# Altium integrated library Cypress Clocks & Buffers Clock Generation.IntLib: 249 symbols (part 3 of 12)
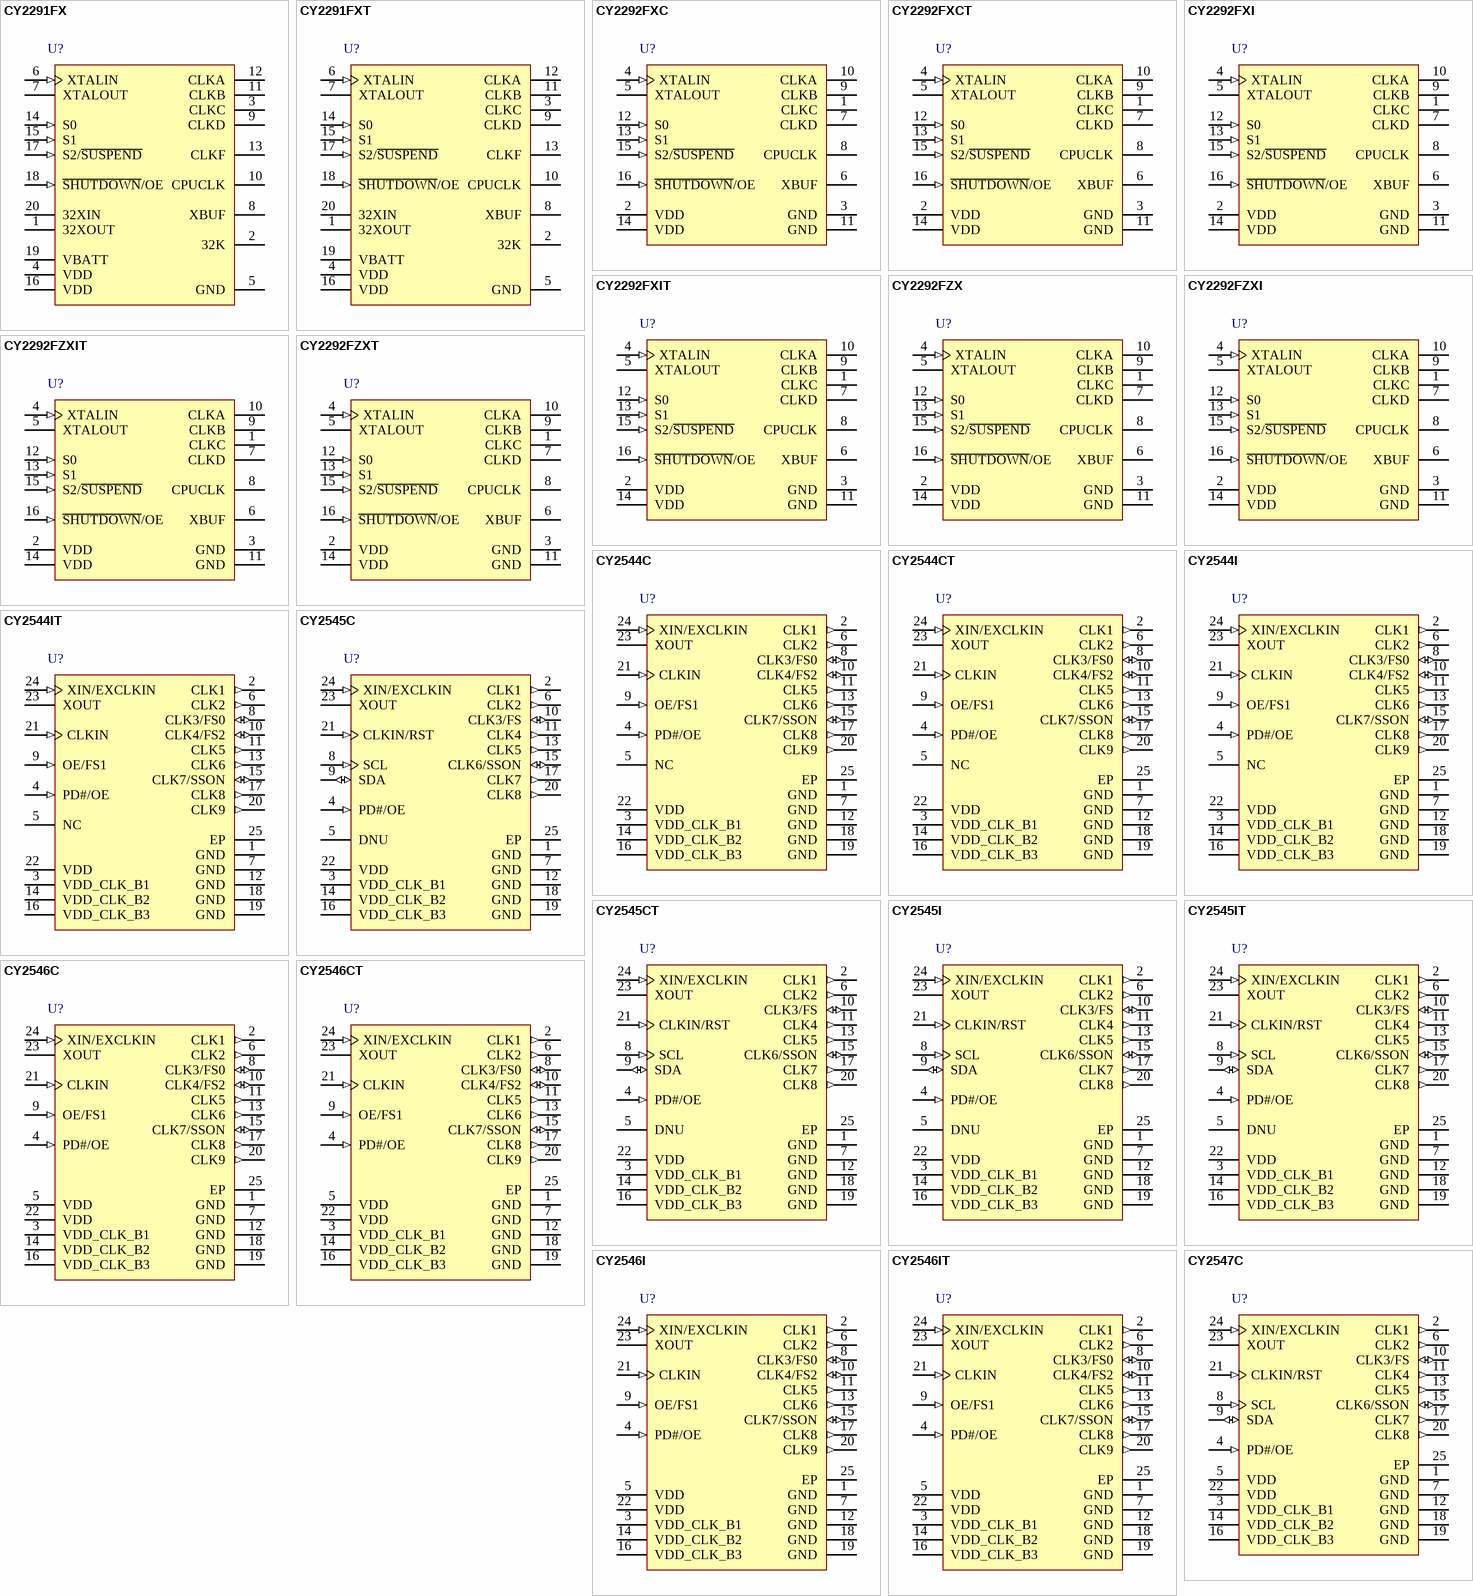
[diagram p10: symbols CY2291FX to CY2547C]

## CY2544I
designator U?
Quad PLL Programmable Clock Generator with Spread Spectrum, 2.5 / 3.0 / 3.3 V, 9 Outputs, 3 to 166 MHz, -40 to 85 degC, 24-Pin QFN (LY24), Tube; Manufacturer: Cypress; PartNumber: CY2544I; Input Frequency Max. (MHz): 166; Input Frequency Min. (MHz): 8; Max. Operating Voltage (V): 3.6; Min. Operating Voltage (V): 2.25; No. of Outputs: 9; Output Frequency Min. (MHz): 3; DatasheetVersion: Rev. *D; PackageVersion: Rev. *D; PackageReference: LY24; PackageDescription: 24-Pin Quad Flat No Lead, Body 4 x 4 mm, Pitch 0.5 mm; Max. Operating Temp. (degreesC): 85; Min. Operating Temp. (degreesC): -40; Output Frequency Max. (MHz): 166; Packing: Tube; RoHS: Pb-Free; Mounting Technology: Surface Mount; Code_JEDEC: MO-220; ComponentLink1Description: Manufacturer URL; ComponentLink1URL: http://www.cypress.com/; ComponentLink2Description: Datasheet; ComponentLink2URL: http://www.cypress.com/?docID=47416; ComponentLink3Description: Package Specification; ComponentLink3URL: http://www.cypress.com/?docID=47416
footprint CYP-LY24_N (QFN, 24-Leads, Body 4.1x4.1mm, Pitch 0.5mm, Thermal Pad 2.49x2.49mm, IPC Medium Density)
footprint CYP-LY24_L (QFN, 24-Leads, Body 4.1x4.1mm, Pitch 0.5mm, Thermal Pad 2.49x2.49mm, IPC High Density)
footprint CYP-LY24_M (QFN, 24-Leads, Body 4.1x4.1mm, Pitch 0.5mm, Thermal Pad 2.49x2.49mm, IPC Low Density)
pins: 1 GND (power) "Power supply ground", 2 CLK1 (out) "Programmable clock output. Output voltage depends on VDD_CLK_B1 voltage", 3 VDD_CLK_B1 (power) "Power supply for bank1, (CLK1, CLK2, CLK3) Outputs: 2.5 V/3.0 V/3.3 V", 4 PD#/OE (in) "Multifunction programmable pin. Output enable or power-down mode", 5 NC "No Connect", 6 CLK2 (out) "Programmable Clock Output. Output voltage depends on VDD_CLK_B1 voltage", 7 GND (power) "Power supply ground", 8 CLK3/FS0 (io) "Multifunction programmable pin. Programmable clock output clock or frequency select pin. Output voltage of CLK3 depends on VDD_CLK_B1 voltage", 9 OE/FS1 (in) "Multifunction programmable pin. Output enable or frequency select pin", 10 CLK4/FS2 (io) "Multifunction programmable pin. Programmable clock output or frequency select input pin. Output voltage of CLK4 depends on VDD_CLK_B2 voltage", 11 CLK5 (out) "Programmable clock output. Output voltage depends on VDD_CLK_B2 voltage", 12 GND (power) "Power supply ground", 13 CLK6 (out) "Programmable clock output. Output voltage depends on VDD_CLK_B2 voltage", 14 VDD_CLK_B2 (power) "Power supply for bank2, (CLK4, CLK5, CLK6) Outputs. 2.5 V/3.0 V/3.3 V", 15 CLK7/SSON (io) "Multifunction programmable pin. Programmable clock output or spread spectrum ON/OFF control input pin. Output voltage of CLK7 depends on Bank3 voltage", 16 VDD_CLK_B3 (power) "Power supply for bank3, (CLK7, CLK8, CLK9) Outputs. 2.5 V/3.0 V/3.3 V", 17 CLK8 (out) "Programmable output clock. Output voltage depends on Bank3 voltage", 18 GND (power) "Power supply ground", 19 GND (power) "Power supply ground", 20 CLK9 (out) "Programmable clock output. Output voltage depends on VDD_CLK_B3 voltage", 21 CLKIN (in) "2.5 V/3.0 V/3.3 V reference clock input. The signal level of CLKIN input must track VDD power supply on pin 22.", 22 VDD (power) "Power supply. 2.5 V/3.0 V/3.3 V", 23 XOUT "Crystal output for CY2544", 24 XIN/EXCLKIN (in) "Crystal input or 1.8 V external clock input for CY2544", 25 EP

## CY2544IT
designator U?
Quad PLL Programmable Clock Generator with Spread Spectrum, 2.5 / 3.0 / 3.3 V, 9 Outputs, 3 to 166 MHz, -40 to 85 degC, 24-Pin QFN (LY24), Tape and Reel; Manufacturer: Cypress; PartNumber: CY2544IT; Input Frequency Max. (MHz): 166; Input Frequency Min. (MHz): 8; Max. Operating Voltage (V): 3.6; Min. Operating Voltage (V): 2.25; No. of Outputs: 9; Output Frequency Min. (MHz): 3; DatasheetVersion: Rev. *D; PackageVersion: Rev. *D; PackageReference: LY24; PackageDescription: 24-Pin Quad Flat No Lead, Body 4 x 4 mm, Pitch 0.5 mm; Max. Operating Temp. (degreesC): 85; Min. Operating Temp. (degreesC): -40; Output Frequency Max. (MHz): 166; Packing: Tape and Reel; RoHS: Pb-Free; Mounting Technology: Surface Mount; Code_JEDEC: MO-220; ComponentLink1Description: Manufacturer URL; ComponentLink1URL: http://www.cypress.com/; ComponentLink2Description: Datasheet; ComponentLink2URL: http://www.cypress.com/?docID=47416; ComponentLink3Description: Package Specification; ComponentLink3URL: http://www.cypress.com/?docID=47416
footprint CYP-LY24_N (QFN, 24-Leads, Body 4.1x4.1mm, Pitch 0.5mm, Thermal Pad 2.49x2.49mm, IPC Medium Density)
footprint CYP-LY24_L (QFN, 24-Leads, Body 4.1x4.1mm, Pitch 0.5mm, Thermal Pad 2.49x2.49mm, IPC High Density)
footprint CYP-LY24_M (QFN, 24-Leads, Body 4.1x4.1mm, Pitch 0.5mm, Thermal Pad 2.49x2.49mm, IPC Low Density)
pins: 1 GND (power) "Power supply ground", 2 CLK1 (out) "Programmable clock output. Output voltage depends on VDD_CLK_B1 voltage", 3 VDD_CLK_B1 (power) "Power supply for bank1, (CLK1, CLK2, CLK3) Outputs: 2.5 V/3.0 V/3.3 V", 4 PD#/OE (in) "Multifunction programmable pin. Output enable or power-down mode", 5 NC "No Connect", 6 CLK2 (out) "Programmable Clock Output. Output voltage depends on VDD_CLK_B1 voltage", 7 GND (power) "Power supply ground", 8 CLK3/FS0 (io) "Multifunction programmable pin. Programmable clock output clock or frequency select pin. Output voltage of CLK3 depends on VDD_CLK_B1 voltage", 9 OE/FS1 (in) "Multifunction programmable pin. Output enable or frequency select pin", 10 CLK4/FS2 (io) "Multifunction programmable pin. Programmable clock output or frequency select input pin. Output voltage of CLK4 depends on VDD_CLK_B2 voltage", 11 CLK5 (out) "Programmable clock output. Output voltage depends on VDD_CLK_B2 voltage", 12 GND (power) "Power supply ground", 13 CLK6 (out) "Programmable clock output. Output voltage depends on VDD_CLK_B2 voltage", 14 VDD_CLK_B2 (power) "Power supply for bank2, (CLK4, CLK5, CLK6) Outputs. 2.5 V/3.0 V/3.3 V", 15 CLK7/SSON (io) "Multifunction programmable pin. Programmable clock output or spread spectrum ON/OFF control input pin. Output voltage of CLK7 depends on Bank3 voltage", 16 VDD_CLK_B3 (power) "Power supply for bank3, (CLK7, CLK8, CLK9) Outputs. 2.5 V/3.0 V/3.3 V", 17 CLK8 (out) "Programmable output clock. Output voltage depends on Bank3 voltage", 18 GND (power) "Power supply ground", 19 GND (power) "Power supply ground", 20 CLK9 (out) "Programmable clock output. Output voltage depends on VDD_CLK_B3 voltage", 21 CLKIN (in) "2.5 V/3.0 V/3.3 V reference clock input. The signal level of CLKIN input must track VDD power supply on pin 22.", 22 VDD (power) "Power supply. 2.5 V/3.0 V/3.3 V", 23 XOUT "Crystal output for CY2544", 24 XIN/EXCLKIN (in) "Crystal input or 1.8 V external clock input for CY2544", 25 EP

## CY2545C
designator U?
Quad PLL Programmable Spread Spectrum Clock Generator with Serial I2C Interface, 2.5 / 3.0 / 3.3 V, 8 Outputs, 3 to 166 MHz, 0 to 70 degC, 24-Pin QFN (LY24), Tube; Manufacturer: Cypress; PartNumber: CY2545C; Input Frequency Max. (MHz): 166; Input Frequency Min. (MHz): 8; Max. Operating Voltage (V): 3.6; Min. Operating Voltage (V): 2.25; Output Frequency Min. (MHz): 3; DatasheetVersion: Rev. *C; PackageVersion: Rev. *D; PackageReference: LY24; PackageDescription: 24-Pin Quad Flat No Lead, Body 4 x 4 mm, Pitch 0.5 mm; Max. Operating Temp. (degreesC): 70; Min. Operating Temp. (degreesC): 0; No. of Outputs: 8; Output Frequency Max. (MHz): 166; Packing: Tube; RoHS: Pb-Free; Mounting Technology: Surface Mount; Code_JEDEC: MO-220; ComponentLink1Description: Manufacturer URL; ComponentLink1URL: http://www.cypress.com/; ComponentLink2Description: Datasheet; ComponentLink2URL: http://www.cypress.com/?docID=30111; ComponentLink3Description: Package Specification; ComponentLink3URL: http://www.cypress.com/?docID=47416
footprint CYP-LY24_N (QFN, 24-Leads, Body 4.1x4.1mm, Pitch 0.5mm, Thermal Pad 2.49x2.49mm, IPC Medium Density)
footprint CYP-LY24_L (QFN, 24-Leads, Body 4.1x4.1mm, Pitch 0.5mm, Thermal Pad 2.49x2.49mm, IPC High Density)
footprint CYP-LY24_M (QFN, 24-Leads, Body 4.1x4.1mm, Pitch 0.5mm, Thermal Pad 2.49x2.49mm, IPC Low Density)
pins: 1 GND (power) "Power supply ground", 2 CLK1 (out) "Programmable clock output. Output voltage depends on VDD_CLK_B1 voltage", 3 VDD_CLK_B1 (power) "Power supply for bank1, (CLK1, CLK2, CLK3) Outputs: 2.5 V/3.0 V/3.3 V", 4 PD#/OE (in) "Multifunction programmable pin. Output enable or power-down mode", 5 DNU "Do not use this pin", 6 CLK2 (out) "Programmable Clock Output. Output voltage depends on VDD_CLK_B1 voltage", 7 GND (power) "Power supply ground", 8 SCL (in) "Serial data clock", 9 SDA (io) "Serial data input/output", 10 CLK3/FS (io) "Multifunction programmable pin. Programmable clock output or frequency select input pin. Output voltage of CLK3 depends on VDD_CLK_B2 voltage", 11 CLK4 (out) "Programmable clock output. Output voltage depends on VDD_CLK_B2 voltage", 12 GND (power) "Power supply ground", 13 CLK5 (out) "Programmable clock output. Output voltage depends on VDD_CLK_B2 voltage", 14 VDD_CLK_B2 (power) "Power supply for bank2, (CLK3, CLK4, CLK5) Outputs. 2.5 V/3.0 V/3.3 V", 15 CLK6/SSON (io) "Multifunction programmable pin. Programmable clock output or spread spectrum ON/OFF control input pin. Output voltage of CLK6 depends on Bank3 voltage", 16 VDD_CLK_B3 (power) "Power supply for bank3, (CLK6, CLK7, CLK8) Outputs. 2.5 V/3.0 V/3.3 V", 17 CLK7 (out) "Programmable output clock. Output voltage depends on Bank3 voltage", 18 GND (power) "Power supply ground", 19 GND (power) "Power supply ground", 20 CLK8 (out) "Programmable clock output. Output voltage depends on VDD_CLK_B3 voltage", 21 CLKIN/RST (in) "Multifunction programmable pin. High true reset input or 2.5 V/3.0 V/3.3 V external reference clock input. The signal level of CLKIN input must track VDD power supply on pin 22.", 22 VDD (power) "Power supply. 2.5 V/3.0 V/3.3 V", 23 XOUT "Crystal output", 24 XIN/EXCLKIN (in) "Crystal input or 1.8 V external clock input", 25 EP

## CY2545CT
designator U?
Quad PLL Programmable Spread Spectrum Clock Generator with Serial I2C Interface, 2.5 / 3.0 / 3.3 V, 8 Outputs, 3 to 166 MHz, 0 to 70 degC, 24-Pin QFN (LY24), Tape and Reel; Manufacturer: Cypress; PartNumber: CY2545CT; Input Frequency Max. (MHz): 166; Input Frequency Min. (MHz): 8; Max. Operating Voltage (V): 3.6; Min. Operating Voltage (V): 2.25; Output Frequency Min. (MHz): 3; DatasheetVersion: Rev. *C; PackageVersion: Rev. *D; PackageReference: LY24; PackageDescription: 24-Pin Quad Flat No Lead, Body 4 x 4 mm, Pitch 0.5 mm; Max. Operating Temp. (degreesC): 70; Min. Operating Temp. (degreesC): 0; No. of Outputs: 8; Output Frequency Max. (MHz): 166; Packing: Tape and Reel; RoHS: Pb-Free; Mounting Technology: Surface Mount; Code_JEDEC: MO-220; ComponentLink1Description: Manufacturer URL; ComponentLink1URL: http://www.cypress.com/; ComponentLink2Description: Datasheet; ComponentLink2URL: http://www.cypress.com/?docID=30111; ComponentLink3Description: Package Specification; ComponentLink3URL: http://www.cypress.com/?docID=47416
footprint CYP-LY24_N (QFN, 24-Leads, Body 4.1x4.1mm, Pitch 0.5mm, Thermal Pad 2.49x2.49mm, IPC Medium Density)
footprint CYP-LY24_L (QFN, 24-Leads, Body 4.1x4.1mm, Pitch 0.5mm, Thermal Pad 2.49x2.49mm, IPC High Density)
footprint CYP-LY24_M (QFN, 24-Leads, Body 4.1x4.1mm, Pitch 0.5mm, Thermal Pad 2.49x2.49mm, IPC Low Density)
pins: 1 GND (power) "Power supply ground", 2 CLK1 (out) "Programmable clock output. Output voltage depends on VDD_CLK_B1 voltage", 3 VDD_CLK_B1 (power) "Power supply for bank1, (CLK1, CLK2, CLK3) Outputs: 2.5 V/3.0 V/3.3 V", 4 PD#/OE (in) "Multifunction programmable pin. Output enable or power-down mode", 5 DNU "Do not use this pin", 6 CLK2 (out) "Programmable Clock Output. Output voltage depends on VDD_CLK_B1 voltage", 7 GND (power) "Power supply ground", 8 SCL (in) "Serial data clock", 9 SDA (io) "Serial data input/output", 10 CLK3/FS (io) "Multifunction programmable pin. Programmable clock output or frequency select input pin. Output voltage of CLK3 depends on VDD_CLK_B2 voltage", 11 CLK4 (out) "Programmable clock output. Output voltage depends on VDD_CLK_B2 voltage", 12 GND (power) "Power supply ground", 13 CLK5 (out) "Programmable clock output. Output voltage depends on VDD_CLK_B2 voltage", 14 VDD_CLK_B2 (power) "Power supply for bank2, (CLK3, CLK4, CLK5) Outputs. 2.5 V/3.0 V/3.3 V", 15 CLK6/SSON (io) "Multifunction programmable pin. Programmable clock output or spread spectrum ON/OFF control input pin. Output voltage of CLK6 depends on Bank3 voltage", 16 VDD_CLK_B3 (power) "Power supply for bank3, (CLK6, CLK7, CLK8) Outputs. 2.5 V/3.0 V/3.3 V", 17 CLK7 (out) "Programmable output clock. Output voltage depends on Bank3 voltage", 18 GND (power) "Power supply ground", 19 GND (power) "Power supply ground", 20 CLK8 (out) "Programmable clock output. Output voltage depends on VDD_CLK_B3 voltage", 21 CLKIN/RST (in) "Multifunction programmable pin. High true reset input or 2.5 V/3.0 V/3.3 V external reference clock input. The signal level of CLKIN input must track VDD power supply on pin 22.", 22 VDD (power) "Power supply. 2.5 V/3.0 V/3.3 V", 23 XOUT "Crystal output", 24 XIN/EXCLKIN (in) "Crystal input or 1.8 V external clock input", 25 EP

## CY2545I
designator U?
Quad PLL Programmable Spread Spectrum Clock Generator with Serial I2C Interface, 2.5 / 3.0 / 3.3 V, 8 Outputs, 3 to 166 MHz, -40 to 85 degC, 24-Pin QFN (LY24), Tube; Manufacturer: Cypress; PartNumber: CY2545I; Input Frequency Max. (MHz): 166; Input Frequency Min. (MHz): 8; Max. Operating Voltage (V): 3.6; Min. Operating Voltage (V): 2.25; Output Frequency Min. (MHz): 3; DatasheetVersion: Rev. *C; PackageVersion: Rev. *D; PackageReference: LY24; PackageDescription: 24-Pin Quad Flat No Lead, Body 4 x 4 mm, Pitch 0.5 mm; Max. Operating Temp. (degreesC): 85; Min. Operating Temp. (degreesC): -40; No. of Outputs: 8; Output Frequency Max. (MHz): 166; Packing: Tube; RoHS: Pb-Free; Mounting Technology: Surface Mount; Code_JEDEC: MO-220; ComponentLink1Description: Manufacturer URL; ComponentLink1URL: http://www.cypress.com/; ComponentLink2Description: Datasheet; ComponentLink2URL: http://www.cypress.com/?docID=30111; ComponentLink3Description: Package Specification; ComponentLink3URL: http://www.cypress.com/?docID=47416
footprint CYP-LY24_N (QFN, 24-Leads, Body 4.1x4.1mm, Pitch 0.5mm, Thermal Pad 2.49x2.49mm, IPC Medium Density)
footprint CYP-LY24_L (QFN, 24-Leads, Body 4.1x4.1mm, Pitch 0.5mm, Thermal Pad 2.49x2.49mm, IPC High Density)
footprint CYP-LY24_M (QFN, 24-Leads, Body 4.1x4.1mm, Pitch 0.5mm, Thermal Pad 2.49x2.49mm, IPC Low Density)
pins: 1 GND (power) "Power supply ground", 2 CLK1 (out) "Programmable clock output. Output voltage depends on VDD_CLK_B1 voltage", 3 VDD_CLK_B1 (power) "Power supply for bank1, (CLK1, CLK2, CLK3) Outputs: 2.5 V/3.0 V/3.3 V", 4 PD#/OE (in) "Multifunction programmable pin. Output enable or power-down mode", 5 DNU "Do not use this pin", 6 CLK2 (out) "Programmable Clock Output. Output voltage depends on VDD_CLK_B1 voltage", 7 GND (power) "Power supply ground", 8 SCL (in) "Serial data clock", 9 SDA (io) "Serial data input/output", 10 CLK3/FS (io) "Multifunction programmable pin. Programmable clock output or frequency select input pin. Output voltage of CLK3 depends on VDD_CLK_B2 voltage", 11 CLK4 (out) "Programmable clock output. Output voltage depends on VDD_CLK_B2 voltage", 12 GND (power) "Power supply ground", 13 CLK5 (out) "Programmable clock output. Output voltage depends on VDD_CLK_B2 voltage", 14 VDD_CLK_B2 (power) "Power supply for bank2, (CLK3, CLK4, CLK5) Outputs. 2.5 V/3.0 V/3.3 V", 15 CLK6/SSON (io) "Multifunction programmable pin. Programmable clock output or spread spectrum ON/OFF control input pin. Output voltage of CLK6 depends on Bank3 voltage", 16 VDD_CLK_B3 (power) "Power supply for bank3, (CLK6, CLK7, CLK8) Outputs. 2.5 V/3.0 V/3.3 V", 17 CLK7 (out) "Programmable output clock. Output voltage depends on Bank3 voltage", 18 GND (power) "Power supply ground", 19 GND (power) "Power supply ground", 20 CLK8 (out) "Programmable clock output. Output voltage depends on VDD_CLK_B3 voltage", 21 CLKIN/RST (in) "Multifunction programmable pin. High true reset input or 2.5 V/3.0 V/3.3 V external reference clock input. The signal level of CLKIN input must track VDD power supply on pin 22.", 22 VDD (power) "Power supply. 2.5 V/3.0 V/3.3 V", 23 XOUT "Crystal output", 24 XIN/EXCLKIN (in) "Crystal input or 1.8 V external clock input", 25 EP

## CY2545IT
designator U?
Quad PLL Programmable Spread Spectrum Clock Generator with Serial I2C Interface, 2.5 / 3.0 / 3.3 V, 8 Outputs, 3 to 166 MHz, -40 to 85 degC, 24-Pin QFN (LY24), Tape and Reel; Manufacturer: Cypress; PartNumber: CY2545IT; Input Frequency Max. (MHz): 166; Input Frequency Min. (MHz): 8; Max. Operating Voltage (V): 3.6; Min. Operating Voltage (V): 2.25; Output Frequency Min. (MHz): 3; DatasheetVersion: Rev. *C; PackageVersion: Rev. *D; PackageReference: LY24; PackageDescription: 24-Pin Quad Flat No Lead, Body 4 x 4 mm, Pitch 0.5 mm; Max. Operating Temp. (degreesC): 85; Min. Operating Temp. (degreesC): -40; No. of Outputs: 8; Output Frequency Max. (MHz): 166; Packing: Tape and Reel; RoHS: Pb-Free; Mounting Technology: Surface Mount; Code_JEDEC: MO-220; ComponentLink1Description: Manufacturer URL; ComponentLink1URL: http://www.cypress.com/; ComponentLink2Description: Datasheet; ComponentLink2URL: http://www.cypress.com/?docID=30111; ComponentLink3Description: Package Specification; ComponentLink3URL: http://www.cypress.com/?docID=47416
footprint CYP-LY24_N (QFN, 24-Leads, Body 4.1x4.1mm, Pitch 0.5mm, Thermal Pad 2.49x2.49mm, IPC Medium Density)
footprint CYP-LY24_L (QFN, 24-Leads, Body 4.1x4.1mm, Pitch 0.5mm, Thermal Pad 2.49x2.49mm, IPC High Density)
footprint CYP-LY24_M (QFN, 24-Leads, Body 4.1x4.1mm, Pitch 0.5mm, Thermal Pad 2.49x2.49mm, IPC Low Density)
pins: 1 GND (power) "Power supply ground", 2 CLK1 (out) "Programmable clock output. Output voltage depends on VDD_CLK_B1 voltage", 3 VDD_CLK_B1 (power) "Power supply for bank1, (CLK1, CLK2, CLK3) Outputs: 2.5 V/3.0 V/3.3 V", 4 PD#/OE (in) "Multifunction programmable pin. Output enable or power-down mode", 5 DNU "Do not use this pin", 6 CLK2 (out) "Programmable Clock Output. Output voltage depends on VDD_CLK_B1 voltage", 7 GND (power) "Power supply ground", 8 SCL (in) "Serial data clock", 9 SDA (io) "Serial data input/output", 10 CLK3/FS (io) "Multifunction programmable pin. Programmable clock output or frequency select input pin. Output voltage of CLK3 depends on VDD_CLK_B2 voltage", 11 CLK4 (out) "Programmable clock output. Output voltage depends on VDD_CLK_B2 voltage", 12 GND (power) "Power supply ground", 13 CLK5 (out) "Programmable clock output. Output voltage depends on VDD_CLK_B2 voltage", 14 VDD_CLK_B2 (power) "Power supply for bank2, (CLK3, CLK4, CLK5) Outputs. 2.5 V/3.0 V/3.3 V", 15 CLK6/SSON (io) "Multifunction programmable pin. Programmable clock output or spread spectrum ON/OFF control input pin. Output voltage of CLK6 depends on Bank3 voltage", 16 VDD_CLK_B3 (power) "Power supply for bank3, (CLK6, CLK7, CLK8) Outputs. 2.5 V/3.0 V/3.3 V", 17 CLK7 (out) "Programmable output clock. Output voltage depends on Bank3 voltage", 18 GND (power) "Power supply ground", 19 GND (power) "Power supply ground", 20 CLK8 (out) "Programmable clock output. Output voltage depends on VDD_CLK_B3 voltage", 21 CLKIN/RST (in) "Multifunction programmable pin. High true reset input or 2.5 V/3.0 V/3.3 V external reference clock input. The signal level of CLKIN input must track VDD power supply on pin 22.", 22 VDD (power) "Power supply. 2.5 V/3.0 V/3.3 V", 23 XOUT "Crystal output", 24 XIN/EXCLKIN (in) "Crystal input or 1.8 V external clock input", 25 EP

## CY2546C
designator U?
Quad PLL Programmable Clock Generator with Spread Spectrum, 1.8 V, 9 Outputs, 3 to 166 MHz, 0 to 70 degC, 24-Pin QFN (LY24), Tube; Manufacturer: Cypress; PartNumber: CY2546C; Input Frequency Max. (MHz): 166; Input Frequency Min. (MHz): 8; Max. Operating Voltage (V): 1.95; Min. Operating Voltage (V): 1.65; No. of Outputs: 9; Output Frequency Min. (MHz): 3; DatasheetVersion: Rev. *D; PackageVersion: Rev. *D; PackageReference: LY24; PackageDescription: 24-Pin Quad Flat No Lead, Body 4 x 4 mm, Pitch 0.5 mm; Max. Operating Temp. (degreesC): 70; Min. Operating Temp. (degreesC): 0; Output Frequency Max. (MHz): 166; Packing: Tube; RoHS: Pb-Free; Mounting Technology: Surface Mount; Code_JEDEC: MO-220; ComponentLink1Description: Manufacturer URL; ComponentLink1URL: http://www.cypress.com/; ComponentLink2Description: Datasheet; ComponentLink2URL: http://www.cypress.com/?docID=47416; ComponentLink3Description: Package Specification; ComponentLink3URL: http://www.cypress.com/?docID=47416
footprint CYP-LY24_N (QFN, 24-Leads, Body 4.1x4.1mm, Pitch 0.5mm, Thermal Pad 2.49x2.49mm, IPC Medium Density)
footprint CYP-LY24_L (QFN, 24-Leads, Body 4.1x4.1mm, Pitch 0.5mm, Thermal Pad 2.49x2.49mm, IPC High Density)
footprint CYP-LY24_M (QFN, 24-Leads, Body 4.1x4.1mm, Pitch 0.5mm, Thermal Pad 2.49x2.49mm, IPC Low Density)
pins: 1 GND (power) "Power supply ground", 2 CLK1 (out) "Programmable clock output. Output voltage depends on VDD_CLK_B1 voltage", 3 VDD_CLK_B1 (power) "Power supply for bank1, (CLK1, CLK2, CLK3) Outputs: 1.8 V", 4 PD#/OE (in) "Multifunction programmable pin. Output enable or power-down mode", 5 VDD (power) "Power supply. 1.8 V", 6 CLK2 (out) "Programmable Clock Output. Output voltage depends on VDD_CLK_B1 voltage", 7 GND (power) "Power supply ground", 8 CLK3/FS0 (io) "Multifunction programmable pin. Programmable clock output clock or frequency select pin. Output voltage of CLK3 depends on VDD_CLK_B1 voltage", 9 OE/FS1 (in) "Multifunction programmable pin. Output enable or frequency select pin", 10 CLK4/FS2 (io) "Multifunction programmable pin. Programmable clock output or frequency select input pin. Output voltage of CLK4 depends on VDD_CLK_B2 voltage", 11 CLK5 (out) "Programmable clock output. Output voltage depends on VDD_CLK_B2 voltage", 12 GND (power) "Power supply ground", 13 CLK6 (out) "Programmable clock output. Output voltage depends on VDD_CLK_B2 voltage", 14 VDD_CLK_B2 (power) "Power supply for bank2, (CLK4, CLK5, CLK6) Outputs. 1.8 V", 15 CLK7/SSON (io) "Multifunction programmable pin. Programmable clock output or spread spectrum ON/OFF control input pin. Output voltage of CLK7 depends on Bank3 voltage", 16 VDD_CLK_B3 (power) "Power supply for bank3, (CLK7, CLK8, CLK9) Outputs. 1.8 V", 17 CLK8 (out) "Programmable output clock. Output voltage depends on Bank3 voltage", 18 GND (power) "Power supply ground", 19 GND (power) "Power supply ground", 20 CLK9 (out) "Programmable clock output. Output voltage depends on VDD_CLK_B3 voltage", 21 CLKIN (in) "External 1.8 V low voltage reference clock input", 22 VDD (power) "Power supply. 1.8 V", 23 XOUT "Crystal output", 24 XIN/EXCLKIN (in) "Crystal input or 1.8 V external clock input", 25 EP

## CY2546CT
designator U?
Quad PLL Programmable Clock Generator with Spread Spectrum, 1.8 V, 9 Outputs, 3 to 166 MHz, 0 to 70 degC, 24-Pin QFN (LY24), Tape and Reel; Manufacturer: Cypress; PartNumber: CY2546CT; Input Frequency Max. (MHz): 166; Input Frequency Min. (MHz): 8; Max. Operating Voltage (V): 1.95; Min. Operating Voltage (V): 1.65; No. of Outputs: 9; Output Frequency Min. (MHz): 3; DatasheetVersion: Rev. *D; PackageVersion: Rev. *D; PackageReference: LY24; PackageDescription: 24-Pin Quad Flat No Lead, Body 4 x 4 mm, Pitch 0.5 mm; Max. Operating Temp. (degreesC): 70; Min. Operating Temp. (degreesC): 0; Output Frequency Max. (MHz): 166; Packing: Tape and Reel; RoHS: Pb-Free; Mounting Technology: Surface Mount; Code_JEDEC: MO-220; ComponentLink1Description: Manufacturer URL; ComponentLink1URL: http://www.cypress.com/; ComponentLink2Description: Datasheet; ComponentLink2URL: http://www.cypress.com/?docID=47416; ComponentLink3Description: Package Specification; ComponentLink3URL: http://www.cypress.com/?docID=47416
footprint CYP-LY24_N (QFN, 24-Leads, Body 4.1x4.1mm, Pitch 0.5mm, Thermal Pad 2.49x2.49mm, IPC Medium Density)
footprint CYP-LY24_L (QFN, 24-Leads, Body 4.1x4.1mm, Pitch 0.5mm, Thermal Pad 2.49x2.49mm, IPC High Density)
footprint CYP-LY24_M (QFN, 24-Leads, Body 4.1x4.1mm, Pitch 0.5mm, Thermal Pad 2.49x2.49mm, IPC Low Density)
pins: 1 GND (power) "Power supply ground", 2 CLK1 (out) "Programmable clock output. Output voltage depends on VDD_CLK_B1 voltage", 3 VDD_CLK_B1 (power) "Power supply for bank1, (CLK1, CLK2, CLK3) Outputs: 1.8 V", 4 PD#/OE (in) "Multifunction programmable pin. Output enable or power-down mode", 5 VDD (power) "Power supply. 1.8 V", 6 CLK2 (out) "Programmable Clock Output. Output voltage depends on VDD_CLK_B1 voltage", 7 GND (power) "Power supply ground", 8 CLK3/FS0 (io) "Multifunction programmable pin. Programmable clock output clock or frequency select pin. Output voltage of CLK3 depends on VDD_CLK_B1 voltage", 9 OE/FS1 (in) "Multifunction programmable pin. Output enable or frequency select pin", 10 CLK4/FS2 (io) "Multifunction programmable pin. Programmable clock output or frequency select input pin. Output voltage of CLK4 depends on VDD_CLK_B2 voltage", 11 CLK5 (out) "Programmable clock output. Output voltage depends on VDD_CLK_B2 voltage", 12 GND (power) "Power supply ground", 13 CLK6 (out) "Programmable clock output. Output voltage depends on VDD_CLK_B2 voltage", 14 VDD_CLK_B2 (power) "Power supply for bank2, (CLK4, CLK5, CLK6) Outputs. 1.8 V", 15 CLK7/SSON (io) "Multifunction programmable pin. Programmable clock output or spread spectrum ON/OFF control input pin. Output voltage of CLK7 depends on Bank3 voltage", 16 VDD_CLK_B3 (power) "Power supply for bank3, (CLK7, CLK8, CLK9) Outputs. 1.8 V", 17 CLK8 (out) "Programmable output clock. Output voltage depends on Bank3 voltage", 18 GND (power) "Power supply ground", 19 GND (power) "Power supply ground", 20 CLK9 (out) "Programmable clock output. Output voltage depends on VDD_CLK_B3 voltage", 21 CLKIN (in) "External 1.8 V low voltage reference clock input", 22 VDD (power) "Power supply. 1.8 V", 23 XOUT "Crystal output", 24 XIN/EXCLKIN (in) "Crystal input or 1.8 V external clock input", 25 EP

## CY2546I
designator U?
Quad PLL Programmable Clock Generator with Spread Spectrum, 1.8 V, 9 Outputs, 3 to 166 MHz, -40 to 85 degC, 24-Pin QFN (LY24), Tube; Manufacturer: Cypress; PartNumber: CY2546I; Input Frequency Max. (MHz): 166; Input Frequency Min. (MHz): 8; Max. Operating Voltage (V): 1.95; Min. Operating Voltage (V): 1.65; No. of Outputs: 9; Output Frequency Min. (MHz): 3; DatasheetVersion: Rev. *D; PackageVersion: Rev. *D; PackageReference: LY24; PackageDescription: 24-Pin Quad Flat No Lead, Body 4 x 4 mm, Pitch 0.5 mm; Max. Operating Temp. (degreesC): 85; Min. Operating Temp. (degreesC): -40; Output Frequency Max. (MHz): 166; Packing: Tube; RoHS: Pb-Free; Mounting Technology: Surface Mount; Code_JEDEC: MO-220; ComponentLink1Description: Manufacturer URL; ComponentLink1URL: http://www.cypress.com/; ComponentLink2Description: Datasheet; ComponentLink2URL: http://www.cypress.com/?docID=47416; ComponentLink3Description: Package Specification; ComponentLink3URL: http://www.cypress.com/?docID=47416
footprint CYP-LY24_N (QFN, 24-Leads, Body 4.1x4.1mm, Pitch 0.5mm, Thermal Pad 2.49x2.49mm, IPC Medium Density)
footprint CYP-LY24_L (QFN, 24-Leads, Body 4.1x4.1mm, Pitch 0.5mm, Thermal Pad 2.49x2.49mm, IPC High Density)
footprint CYP-LY24_M (QFN, 24-Leads, Body 4.1x4.1mm, Pitch 0.5mm, Thermal Pad 2.49x2.49mm, IPC Low Density)
pins: 1 GND (power) "Power supply ground", 2 CLK1 (out) "Programmable clock output. Output voltage depends on VDD_CLK_B1 voltage", 3 VDD_CLK_B1 (power) "Power supply for bank1, (CLK1, CLK2, CLK3) Outputs: 1.8 V", 4 PD#/OE (in) "Multifunction programmable pin. Output enable or power-down mode", 5 VDD (power) "Power supply. 1.8 V", 6 CLK2 (out) "Programmable Clock Output. Output voltage depends on VDD_CLK_B1 voltage", 7 GND (power) "Power supply ground", 8 CLK3/FS0 (io) "Multifunction programmable pin. Programmable clock output clock or frequency select pin. Output voltage of CLK3 depends on VDD_CLK_B1 voltage", 9 OE/FS1 (in) "Multifunction programmable pin. Output enable or frequency select pin", 10 CLK4/FS2 (io) "Multifunction programmable pin. Programmable clock output or frequency select input pin. Output voltage of CLK4 depends on VDD_CLK_B2 voltage", 11 CLK5 (out) "Programmable clock output. Output voltage depends on VDD_CLK_B2 voltage", 12 GND (power) "Power supply ground", 13 CLK6 (out) "Programmable clock output. Output voltage depends on VDD_CLK_B2 voltage", 14 VDD_CLK_B2 (power) "Power supply for bank2, (CLK4, CLK5, CLK6) Outputs. 1.8 V", 15 CLK7/SSON (io) "Multifunction programmable pin. Programmable clock output or spread spectrum ON/OFF control input pin. Output voltage of CLK7 depends on Bank3 voltage", 16 VDD_CLK_B3 (power) "Power supply for bank3, (CLK7, CLK8, CLK9) Outputs. 1.8 V", 17 CLK8 (out) "Programmable output clock. Output voltage depends on Bank3 voltage", 18 GND (power) "Power supply ground", 19 GND (power) "Power supply ground", 20 CLK9 (out) "Programmable clock output. Output voltage depends on VDD_CLK_B3 voltage", 21 CLKIN (in) "External 1.8 V low voltage reference clock input", 22 VDD (power) "Power supply. 1.8 V", 23 XOUT "Crystal output", 24 XIN/EXCLKIN (in) "Crystal input or 1.8 V external clock input", 25 EP

## CY2546IT
designator U?
Quad PLL Programmable Clock Generator with Spread Spectrum, 1.8 V, 9 Outputs, 3 to 166 MHz, -40 to 85 degC, 24-Pin QFN (LY24), Tape and Reel; Manufacturer: Cypress; PartNumber: CY2546IT; Input Frequency Max. (MHz): 166; Input Frequency Min. (MHz): 8; Max. Operating Voltage (V): 1.95; Min. Operating Voltage (V): 1.65; No. of Outputs: 9; Output Frequency Min. (MHz): 3; DatasheetVersion: Rev. *D; PackageVersion: Rev. *D; PackageReference: LY24; PackageDescription: 24-Pin Quad Flat No Lead, Body 4 x 4 mm, Pitch 0.5 mm; Max. Operating Temp. (degreesC): 85; Min. Operating Temp. (degreesC): -40; Output Frequency Max. (MHz): 166; Packing: Tape and Reel; RoHS: Pb-Free; Mounting Technology: Surface Mount; Code_JEDEC: MO-220; ComponentLink1Description: Manufacturer URL; ComponentLink1URL: http://www.cypress.com/; ComponentLink2Description: Datasheet; ComponentLink2URL: http://www.cypress.com/?docID=47416; ComponentLink3Description: Package Specification; ComponentLink3URL: http://www.cypress.com/?docID=47416
footprint CYP-LY24_N (QFN, 24-Leads, Body 4.1x4.1mm, Pitch 0.5mm, Thermal Pad 2.49x2.49mm, IPC Medium Density)
footprint CYP-LY24_L (QFN, 24-Leads, Body 4.1x4.1mm, Pitch 0.5mm, Thermal Pad 2.49x2.49mm, IPC High Density)
footprint CYP-LY24_M (QFN, 24-Leads, Body 4.1x4.1mm, Pitch 0.5mm, Thermal Pad 2.49x2.49mm, IPC Low Density)
pins: 1 GND (power) "Power supply ground", 2 CLK1 (out) "Programmable clock output. Output voltage depends on VDD_CLK_B1 voltage", 3 VDD_CLK_B1 (power) "Power supply for bank1, (CLK1, CLK2, CLK3) Outputs: 1.8 V", 4 PD#/OE (in) "Multifunction programmable pin. Output enable or power-down mode", 5 VDD (power) "Power supply. 1.8 V", 6 CLK2 (out) "Programmable Clock Output. Output voltage depends on VDD_CLK_B1 voltage", 7 GND (power) "Power supply ground", 8 CLK3/FS0 (io) "Multifunction programmable pin. Programmable clock output clock or frequency select pin. Output voltage of CLK3 depends on VDD_CLK_B1 voltage", 9 OE/FS1 (in) "Multifunction programmable pin. Output enable or frequency select pin", 10 CLK4/FS2 (io) "Multifunction programmable pin. Programmable clock output or frequency select input pin. Output voltage of CLK4 depends on VDD_CLK_B2 voltage", 11 CLK5 (out) "Programmable clock output. Output voltage depends on VDD_CLK_B2 voltage", 12 GND (power) "Power supply ground", 13 CLK6 (out) "Programmable clock output. Output voltage depends on VDD_CLK_B2 voltage", 14 VDD_CLK_B2 (power) "Power supply for bank2, (CLK4, CLK5, CLK6) Outputs. 1.8 V", 15 CLK7/SSON (io) "Multifunction programmable pin. Programmable clock output or spread spectrum ON/OFF control input pin. Output voltage of CLK7 depends on Bank3 voltage", 16 VDD_CLK_B3 (power) "Power supply for bank3, (CLK7, CLK8, CLK9) Outputs. 1.8 V", 17 CLK8 (out) "Programmable output clock. Output voltage depends on Bank3 voltage", 18 GND (power) "Power supply ground", 19 GND (power) "Power supply ground", 20 CLK9 (out) "Programmable clock output. Output voltage depends on VDD_CLK_B3 voltage", 21 CLKIN (in) "External 1.8 V low voltage reference clock input", 22 VDD (power) "Power supply. 1.8 V", 23 XOUT "Crystal output", 24 XIN/EXCLKIN (in) "Crystal input or 1.8 V external clock input", 25 EP

## CY2547C
designator U?
Quad PLL Programmable Spread Spectrum Clock Generator with Serial I2C Interface, 1.8 V, 8 Outputs, 3 to 166 MHz, 0 to 70 degC, 24-Pin QFN (LY24), Tube; Manufacturer: Cypress; PartNumber: CY2547C; Input Frequency Max. (MHz): 166; Input Frequency Min. (MHz): 8; Max. Operating Voltage (V): 1.95; Min. Operating Voltage (V): 1.65; Output Frequency Min. (MHz): 3; DatasheetVersion: Rev. *C; PackageVersion: Rev. *D; PackageReference: LY24; PackageDescription: 24-Pin Quad Flat No Lead, Body 4 x 4 mm, Pitch 0.5 mm; Max. Operating Temp. (degreesC): 70; Min. Operating Temp. (degreesC): 0; No. of Outputs: 8; Output Frequency Max. (MHz): 166; Packing: Tube; RoHS: Pb-Free; Mounting Technology: Surface Mount; Code_JEDEC: MO-220; ComponentLink1Description: Manufacturer URL; ComponentLink1URL: http://www.cypress.com/; ComponentLink2Description: Datasheet; ComponentLink2URL: http://www.cypress.com/?docID=30111; ComponentLink3Description: Package Specification; ComponentLink3URL: http://www.cypress.com/?docID=47416
footprint CYP-LY24_N (QFN, 24-Leads, Body 4.1x4.1mm, Pitch 0.5mm, Thermal Pad 2.49x2.49mm, IPC Medium Density)
footprint CYP-LY24_L (QFN, 24-Leads, Body 4.1x4.1mm, Pitch 0.5mm, Thermal Pad 2.49x2.49mm, IPC High Density)
footprint CYP-LY24_M (QFN, 24-Leads, Body 4.1x4.1mm, Pitch 0.5mm, Thermal Pad 2.49x2.49mm, IPC Low Density)
pins: 1 GND (power) "Power supply ground", 2 CLK1 (out) "Programmable clock output. Output voltage depends on VDD_CLK_B1 voltage", 3 VDD_CLK_B1 (power) "Power supply for bank1, (CLK1, CLK2, CLK3) Outputs: 1.8 V", 4 PD#/OE (in) "Multifunction programmable pin. Output enable or power-down mode", 5 VDD (power) "Power supply for core and inputs: 1.8 V", 6 CLK2 (out) "Programmable Clock Output. Output voltage depends on VDD_CLK_B1 voltage", 7 GND (power) "Power supply ground", 8 SCL (in) "Serial data clock", 9 SDA (io) "Serial data input/output", 10 CLK3/FS (io) "Multifunction programmable pin. Programmable clock output or frequency select input pin. Output voltage of CLK3 depends on VDD_CLK_B2 voltage", 11 CLK4 (out) "Programmable clock output. Output voltage depends on VDD_CLK_B2 voltage", 12 GND (power) "Power supply ground", 13 CLK5 (out) "Programmable clock output. Output voltage depends on VDD_CLK_B2 voltage", 14 VDD_CLK_B2 (power) "Power supply for bank2, (CLK3, CLK4, CLK5) Outputs. 1.8 V", 15 CLK6/SSON (io) "Multifunction programmable pin. Programmable clock output or spread spectrum ON/OFF control input pin. Output voltage of CLK6 depends on Bank3 voltage", 16 VDD_CLK_B3 (power) "Power supply for bank3, (CLK6, CLK7, CLK8) Outputs. 1.8 V", 17 CLK7 (out) "Programmable output clock. Output voltage depends on Bank3 voltage", 18 GND (power) "Power supply ground", 19 GND (power) "Power supply ground", 20 CLK8 (out) "Programmable clock output. Output voltage depends on VDD_CLK_B3 voltage", 21 CLKIN/RST (in) "Multifunction programmable pin. High true reset input or 1.8 V external reference clock input. The signal level of CLKIN input must track VDD power supply on pin 22.", 22 VDD (power) "Power supply. 1.8 V", 23 XOUT "Crystal output", 24 XIN/EXCLKIN (in) "Crystal input or 1.8 V external clock input", 25 EP

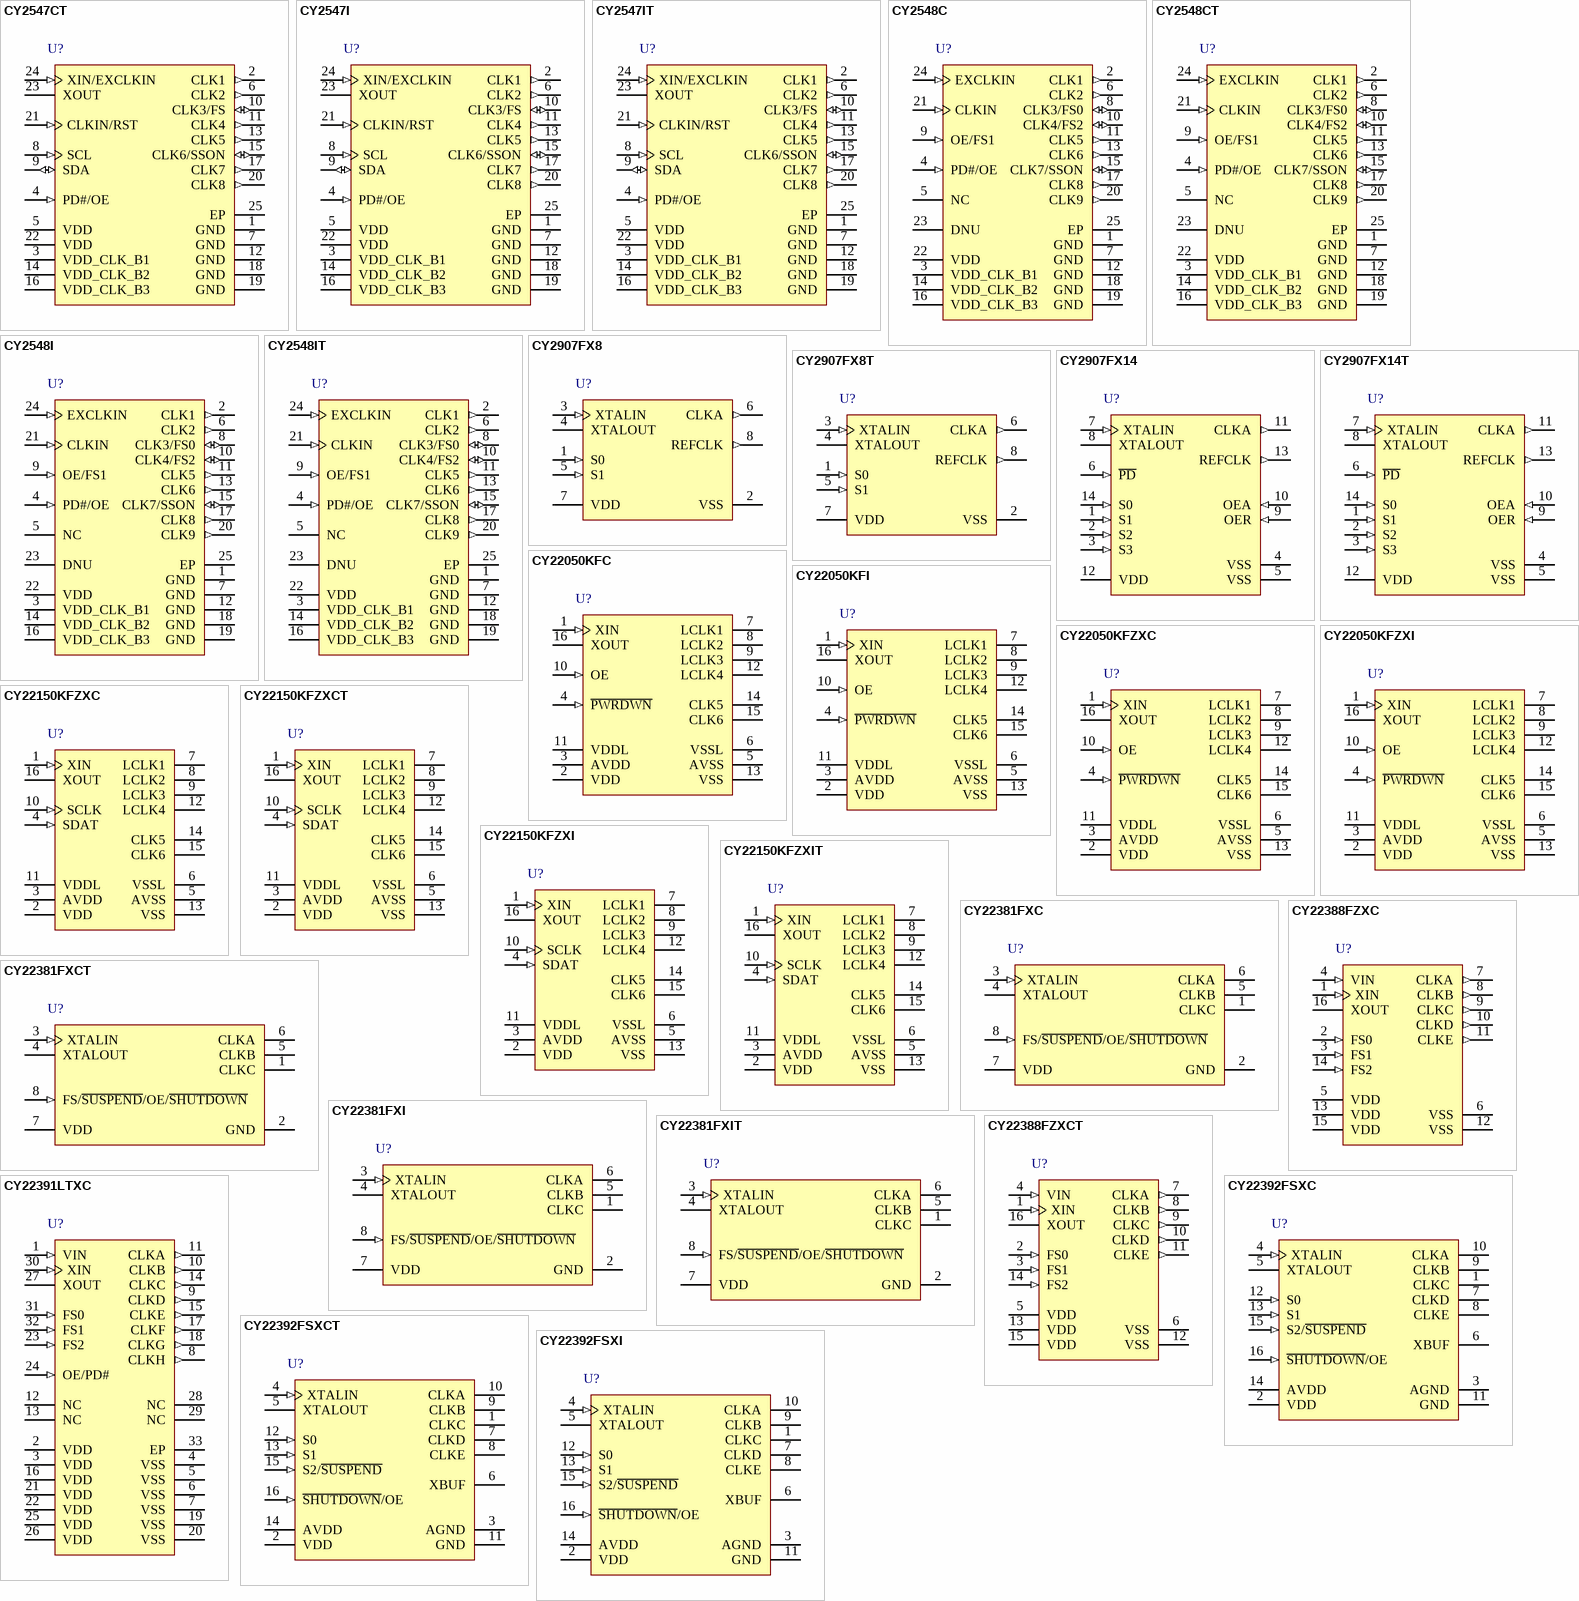
[diagram p2: symbols CY2547CT to CY22392FSXI]

## CY2547CT
designator U?
Quad PLL Programmable Spread Spectrum Clock Generator with Serial I2C Interface, 1.8 V, 8 Outputs, 3 to 166 MHz, 0 to 70 degC, 24-Pin QFN (LY24), Tape and Reel; Manufacturer: Cypress; PartNumber: CY2547CT; Input Frequency Max. (MHz): 166; Input Frequency Min. (MHz): 8; Max. Operating Voltage (V): 1.95; Min. Operating Voltage (V): 1.65; Output Frequency Min. (MHz): 3; DatasheetVersion: Rev. *C; PackageVersion: Rev. *D; PackageReference: LY24; PackageDescription: 24-Pin Quad Flat No Lead, Body 4 x 4 mm, Pitch 0.5 mm; Max. Operating Temp. (degreesC): 70; Min. Operating Temp. (degreesC): 0; No. of Outputs: 8; Output Frequency Max. (MHz): 166; Packing: Tape and Reel; RoHS: Pb-Free; Mounting Technology: Surface Mount; Code_JEDEC: MO-220; ComponentLink1Description: Manufacturer URL; ComponentLink1URL: http://www.cypress.com/; ComponentLink2Description: Datasheet; ComponentLink2URL: http://www.cypress.com/?docID=30111; ComponentLink3Description: Package Specification; ComponentLink3URL: http://www.cypress.com/?docID=47416
footprint CYP-LY24_N (QFN, 24-Leads, Body 4.1x4.1mm, Pitch 0.5mm, Thermal Pad 2.49x2.49mm, IPC Medium Density)
footprint CYP-LY24_L (QFN, 24-Leads, Body 4.1x4.1mm, Pitch 0.5mm, Thermal Pad 2.49x2.49mm, IPC High Density)
footprint CYP-LY24_M (QFN, 24-Leads, Body 4.1x4.1mm, Pitch 0.5mm, Thermal Pad 2.49x2.49mm, IPC Low Density)
pins: 1 GND (power) "Power supply ground", 2 CLK1 (out) "Programmable clock output. Output voltage depends on VDD_CLK_B1 voltage", 3 VDD_CLK_B1 (power) "Power supply for bank1, (CLK1, CLK2, CLK3) Outputs: 1.8 V", 4 PD#/OE (in) "Multifunction programmable pin. Output enable or power-down mode", 5 VDD (power) "Power supply for core and inputs: 1.8 V", 6 CLK2 (out) "Programmable Clock Output. Output voltage depends on VDD_CLK_B1 voltage", 7 GND (power) "Power supply ground", 8 SCL (in) "Serial data clock", 9 SDA (io) "Serial data input/output", 10 CLK3/FS (io) "Multifunction programmable pin. Programmable clock output or frequency select input pin. Output voltage of CLK3 depends on VDD_CLK_B2 voltage", 11 CLK4 (out) "Programmable clock output. Output voltage depends on VDD_CLK_B2 voltage", 12 GND (power) "Power supply ground", 13 CLK5 (out) "Programmable clock output. Output voltage depends on VDD_CLK_B2 voltage", 14 VDD_CLK_B2 (power) "Power supply for bank2, (CLK3, CLK4, CLK5) Outputs. 1.8 V", 15 CLK6/SSON (io) "Multifunction programmable pin. Programmable clock output or spread spectrum ON/OFF control input pin. Output voltage of CLK6 depends on Bank3 voltage", 16 VDD_CLK_B3 (power) "Power supply for bank3, (CLK6, CLK7, CLK8) Outputs. 1.8 V", 17 CLK7 (out) "Programmable output clock. Output voltage depends on Bank3 voltage", 18 GND (power) "Power supply ground", 19 GND (power) "Power supply ground", 20 CLK8 (out) "Programmable clock output. Output voltage depends on VDD_CLK_B3 voltage", 21 CLKIN/RST (in) "Multifunction programmable pin. High true reset input or 1.8 V external reference clock input. The signal level of CLKIN input must track VDD power supply on pin 22.", 22 VDD (power) "Power supply. 1.8 V", 23 XOUT "Crystal output", 24 XIN/EXCLKIN (in) "Crystal input or 1.8 V external clock input", 25 EP

## CY2547I
designator U?
Quad PLL Programmable Spread Spectrum Clock Generator with Serial I2C Interface, 1.8 V, 8 Outputs, 3 to 166 MHz, -40 to 85 degC, 24-Pin QFN (LY24), Tube; Manufacturer: Cypress; PartNumber: CY2547I; Input Frequency Max. (MHz): 166; Input Frequency Min. (MHz): 8; Max. Operating Voltage (V): 1.95; Min. Operating Voltage (V): 1.65; Output Frequency Min. (MHz): 3; DatasheetVersion: Rev. *C; PackageVersion: Rev. *D; PackageReference: LY24; PackageDescription: 24-Pin Quad Flat No Lead, Body 4 x 4 mm, Pitch 0.5 mm; Max. Operating Temp. (degreesC): 85; Min. Operating Temp. (degreesC): -40; No. of Outputs: 8; Output Frequency Max. (MHz): 166; Packing: Tube; RoHS: Pb-Free; Mounting Technology: Surface Mount; Code_JEDEC: MO-220; ComponentLink1Description: Manufacturer URL; ComponentLink1URL: http://www.cypress.com/; ComponentLink2Description: Datasheet; ComponentLink2URL: http://www.cypress.com/?docID=30111; ComponentLink3Description: Package Specification; ComponentLink3URL: http://www.cypress.com/?docID=47416
footprint CYP-LY24_N (QFN, 24-Leads, Body 4.1x4.1mm, Pitch 0.5mm, Thermal Pad 2.49x2.49mm, IPC Medium Density)
footprint CYP-LY24_L (QFN, 24-Leads, Body 4.1x4.1mm, Pitch 0.5mm, Thermal Pad 2.49x2.49mm, IPC High Density)
footprint CYP-LY24_M (QFN, 24-Leads, Body 4.1x4.1mm, Pitch 0.5mm, Thermal Pad 2.49x2.49mm, IPC Low Density)
pins: 1 GND (power) "Power supply ground", 2 CLK1 (out) "Programmable clock output. Output voltage depends on VDD_CLK_B1 voltage", 3 VDD_CLK_B1 (power) "Power supply for bank1, (CLK1, CLK2, CLK3) Outputs: 1.8 V", 4 PD#/OE (in) "Multifunction programmable pin. Output enable or power-down mode", 5 VDD (power) "Power supply for core and inputs: 1.8 V", 6 CLK2 (out) "Programmable Clock Output. Output voltage depends on VDD_CLK_B1 voltage", 7 GND (power) "Power supply ground", 8 SCL (in) "Serial data clock", 9 SDA (io) "Serial data input/output", 10 CLK3/FS (io) "Multifunction programmable pin. Programmable clock output or frequency select input pin. Output voltage of CLK3 depends on VDD_CLK_B2 voltage", 11 CLK4 (out) "Programmable clock output. Output voltage depends on VDD_CLK_B2 voltage", 12 GND (power) "Power supply ground", 13 CLK5 (out) "Programmable clock output. Output voltage depends on VDD_CLK_B2 voltage", 14 VDD_CLK_B2 (power) "Power supply for bank2, (CLK3, CLK4, CLK5) Outputs. 1.8 V", 15 CLK6/SSON (io) "Multifunction programmable pin. Programmable clock output or spread spectrum ON/OFF control input pin. Output voltage of CLK6 depends on Bank3 voltage", 16 VDD_CLK_B3 (power) "Power supply for bank3, (CLK6, CLK7, CLK8) Outputs. 1.8 V", 17 CLK7 (out) "Programmable output clock. Output voltage depends on Bank3 voltage", 18 GND (power) "Power supply ground", 19 GND (power) "Power supply ground", 20 CLK8 (out) "Programmable clock output. Output voltage depends on VDD_CLK_B3 voltage", 21 CLKIN/RST (in) "Multifunction programmable pin. High true reset input or 1.8 V external reference clock input. The signal level of CLKIN input must track VDD power supply on pin 22.", 22 VDD (power) "Power supply. 1.8 V", 23 XOUT "Crystal output", 24 XIN/EXCLKIN (in) "Crystal input or 1.8 V external clock input", 25 EP

## CY2547IT
designator U?
Quad PLL Programmable Spread Spectrum Clock Generator with Serial I2C Interface, 1.8 V, 8 Outputs, 3 to 166 MHz, -40 to 85 degC, 24-Pin QFN (LY24), Tape and Reel; Manufacturer: Cypress; PartNumber: CY2547IT; Input Frequency Max. (MHz): 166; Input Frequency Min. (MHz): 8; Max. Operating Voltage (V): 1.95; Min. Operating Voltage (V): 1.65; Output Frequency Min. (MHz): 3; DatasheetVersion: Rev. *C; PackageVersion: Rev. *D; PackageReference: LY24; PackageDescription: 24-Pin Quad Flat No Lead, Body 4 x 4 mm, Pitch 0.5 mm; Max. Operating Temp. (degreesC): 85; Min. Operating Temp. (degreesC): -40; No. of Outputs: 8; Output Frequency Max. (MHz): 166; Packing: Tape and Reel; RoHS: Pb-Free; Mounting Technology: Surface Mount; Code_JEDEC: MO-220; ComponentLink1Description: Manufacturer URL; ComponentLink1URL: http://www.cypress.com/; ComponentLink2Description: Datasheet; ComponentLink2URL: http://www.cypress.com/?docID=30111; ComponentLink3Description: Package Specification; ComponentLink3URL: http://www.cypress.com/?docID=47416
footprint CYP-LY24_N (QFN, 24-Leads, Body 4.1x4.1mm, Pitch 0.5mm, Thermal Pad 2.49x2.49mm, IPC Medium Density)
footprint CYP-LY24_L (QFN, 24-Leads, Body 4.1x4.1mm, Pitch 0.5mm, Thermal Pad 2.49x2.49mm, IPC High Density)
footprint CYP-LY24_M (QFN, 24-Leads, Body 4.1x4.1mm, Pitch 0.5mm, Thermal Pad 2.49x2.49mm, IPC Low Density)
pins: 1 GND (power) "Power supply ground", 2 CLK1 (out) "Programmable clock output. Output voltage depends on VDD_CLK_B1 voltage", 3 VDD_CLK_B1 (power) "Power supply for bank1, (CLK1, CLK2, CLK3) Outputs: 1.8 V", 4 PD#/OE (in) "Multifunction programmable pin. Output enable or power-down mode", 5 VDD (power) "Power supply for core and inputs: 1.8 V", 6 CLK2 (out) "Programmable Clock Output. Output voltage depends on VDD_CLK_B1 voltage", 7 GND (power) "Power supply ground", 8 SCL (in) "Serial data clock", 9 SDA (io) "Serial data input/output", 10 CLK3/FS (io) "Multifunction programmable pin. Programmable clock output or frequency select input pin. Output voltage of CLK3 depends on VDD_CLK_B2 voltage", 11 CLK4 (out) "Programmable clock output. Output voltage depends on VDD_CLK_B2 voltage", 12 GND (power) "Power supply ground", 13 CLK5 (out) "Programmable clock output. Output voltage depends on VDD_CLK_B2 voltage", 14 VDD_CLK_B2 (power) "Power supply for bank2, (CLK3, CLK4, CLK5) Outputs. 1.8 V", 15 CLK6/SSON (io) "Multifunction programmable pin. Programmable clock output or spread spectrum ON/OFF control input pin. Output voltage of CLK6 depends on Bank3 voltage", 16 VDD_CLK_B3 (power) "Power supply for bank3, (CLK6, CLK7, CLK8) Outputs. 1.8 V", 17 CLK7 (out) "Programmable output clock. Output voltage depends on Bank3 voltage", 18 GND (power) "Power supply ground", 19 GND (power) "Power supply ground", 20 CLK8 (out) "Programmable clock output. Output voltage depends on VDD_CLK_B3 voltage", 21 CLKIN/RST (in) "Multifunction programmable pin. High true reset input or 1.8 V external reference clock input. The signal level of CLKIN input must track VDD power supply on pin 22.", 22 VDD (power) "Power supply. 1.8 V", 23 XOUT "Crystal output", 24 XIN/EXCLKIN (in) "Crystal input or 1.8 V external clock input", 25 EP

## CY2548C
designator U?
Quad PLL Programmable Clock Generator with Spread Spectrum, 2.5 / 3.0 / 3.3 V, 9 Outputs, 3 to 166 MHz, 0 to 70 degC, 24-Pin QFN (LY24), Tube; Manufacturer: Cypress; PartNumber: CY2548C; Input Frequency Max. (MHz): 166; Input Frequency Min. (MHz): 8; Max. Operating Voltage (V): 3.6; Min. Operating Voltage (V): 2.25; No. of Outputs: 9; Output Frequency Min. (MHz): 3; DatasheetVersion: Rev. *D; PackageVersion: Rev. *D; PackageReference: LY24; PackageDescription: 24-Pin Quad Flat No Lead, Body 4 x 4 mm, Pitch 0.5 mm; Max. Operating Temp. (degreesC): 70; Min. Operating Temp. (degreesC): 0; Output Frequency Max. (MHz): 166; Packing: Tube; RoHS: Pb-Free; Mounting Technology: Surface Mount; Code_JEDEC: MO-220; ComponentLink1Description: Manufacturer URL; ComponentLink1URL: http://www.cypress.com/; ComponentLink2Description: Datasheet; ComponentLink2URL: http://www.cypress.com/?docID=47416; ComponentLink3Description: Package Specification; ComponentLink3URL: http://www.cypress.com/?docID=47416
footprint CYP-LY24_N (QFN, 24-Leads, Body 4.1x4.1mm, Pitch 0.5mm, Thermal Pad 2.49x2.49mm, IPC Medium Density)
footprint CYP-LY24_L (QFN, 24-Leads, Body 4.1x4.1mm, Pitch 0.5mm, Thermal Pad 2.49x2.49mm, IPC High Density)
footprint CYP-LY24_M (QFN, 24-Leads, Body 4.1x4.1mm, Pitch 0.5mm, Thermal Pad 2.49x2.49mm, IPC Low Density)
pins: 1 GND (power) "Power supply ground", 2 CLK1 (out) "Programmable clock output. Output voltage depends on VDD_CLK_B1 voltage", 3 VDD_CLK_B1 (power) "Power supply for bank1, (CLK1, CLK2, CLK3) Outputs: 2.5 V/3.0 V/3.3 V", 4 PD#/OE (in) "Multifunction programmable pin. Output enable or power-down mode", 5 NC "No Connect", 6 CLK2 (out) "Programmable Clock Output. Output voltage depends on VDD_CLK_B1 voltage", 7 GND (power) "Power supply ground", 8 CLK3/FS0 (io) "Multifunction programmable pin. Programmable clock output clock or frequency select pin. Output voltage of CLK3 depends on VDD_CLK_B1 voltage", 9 OE/FS1 (in) "Multifunction programmable pin. Output enable or frequency select pin", 10 CLK4/FS2 (io) "Multifunction programmable pin. Programmable clock output or frequency select input pin. Output voltage of CLK4 depends on VDD_CLK_B2 voltage", 11 CLK5 (out) "Programmable clock output. Output voltage depends on VDD_CLK_B2 voltage", 12 GND (power) "Power supply ground", 13 CLK6 (out) "Programmable clock output. Output voltage depends on VDD_CLK_B2 voltage", 14 VDD_CLK_B2 (power) "Power supply for bank2, (CLK4, CLK5, CLK6) Outputs. 2.5 V/3.0 V/3.3 V", 15 CLK7/SSON (io) "Multifunction programmable pin. Programmable clock output or spread spectrum ON/OFF control input pin. Output voltage of CLK7 depends on Bank3 voltage", 16 VDD_CLK_B3 (power) "Power supply for bank3, (CLK7, CLK8, CLK9) Outputs. 2.5 V/3.0 V/3.3 V", 17 CLK8 (out) "Programmable output clock. Output voltage depends on Bank3 voltage", 18 GND (power) "Power supply ground", 19 GND (power) "Power supply ground", 20 CLK9 (out) "Programmable clock output. Output voltage depends on VDD_CLK_B3 voltage", 21 CLKIN (in) "2.5 V/3.0 V/3.3 V reference clock input. The signal level of CLKIN input must track VDD power supply on pin 22.", 22 VDD (power) "Power supply. 2.5 V/3.0 V/3.3 V", 23 DNU "Do not use this pin for CY2548", 24 EXCLKIN (in) "2.5 V/3.0 V/3.3 V external clock input for CY2548", 25 EP